# Altium footprint library Atmel_By_element14_Batch_1-00.PCBLIB: 46 footprints (part 1 of 3)
Each footprint in its own frame and in the unit in brackets; x right, y up, seen from the top. Pads: shape width x height; smd on the part's side, far side on the other; paste and mask are expansions set on the pad; w line width, h text height; cw(c..) or ccw(c..) is an arc to the next point about the centre after c.
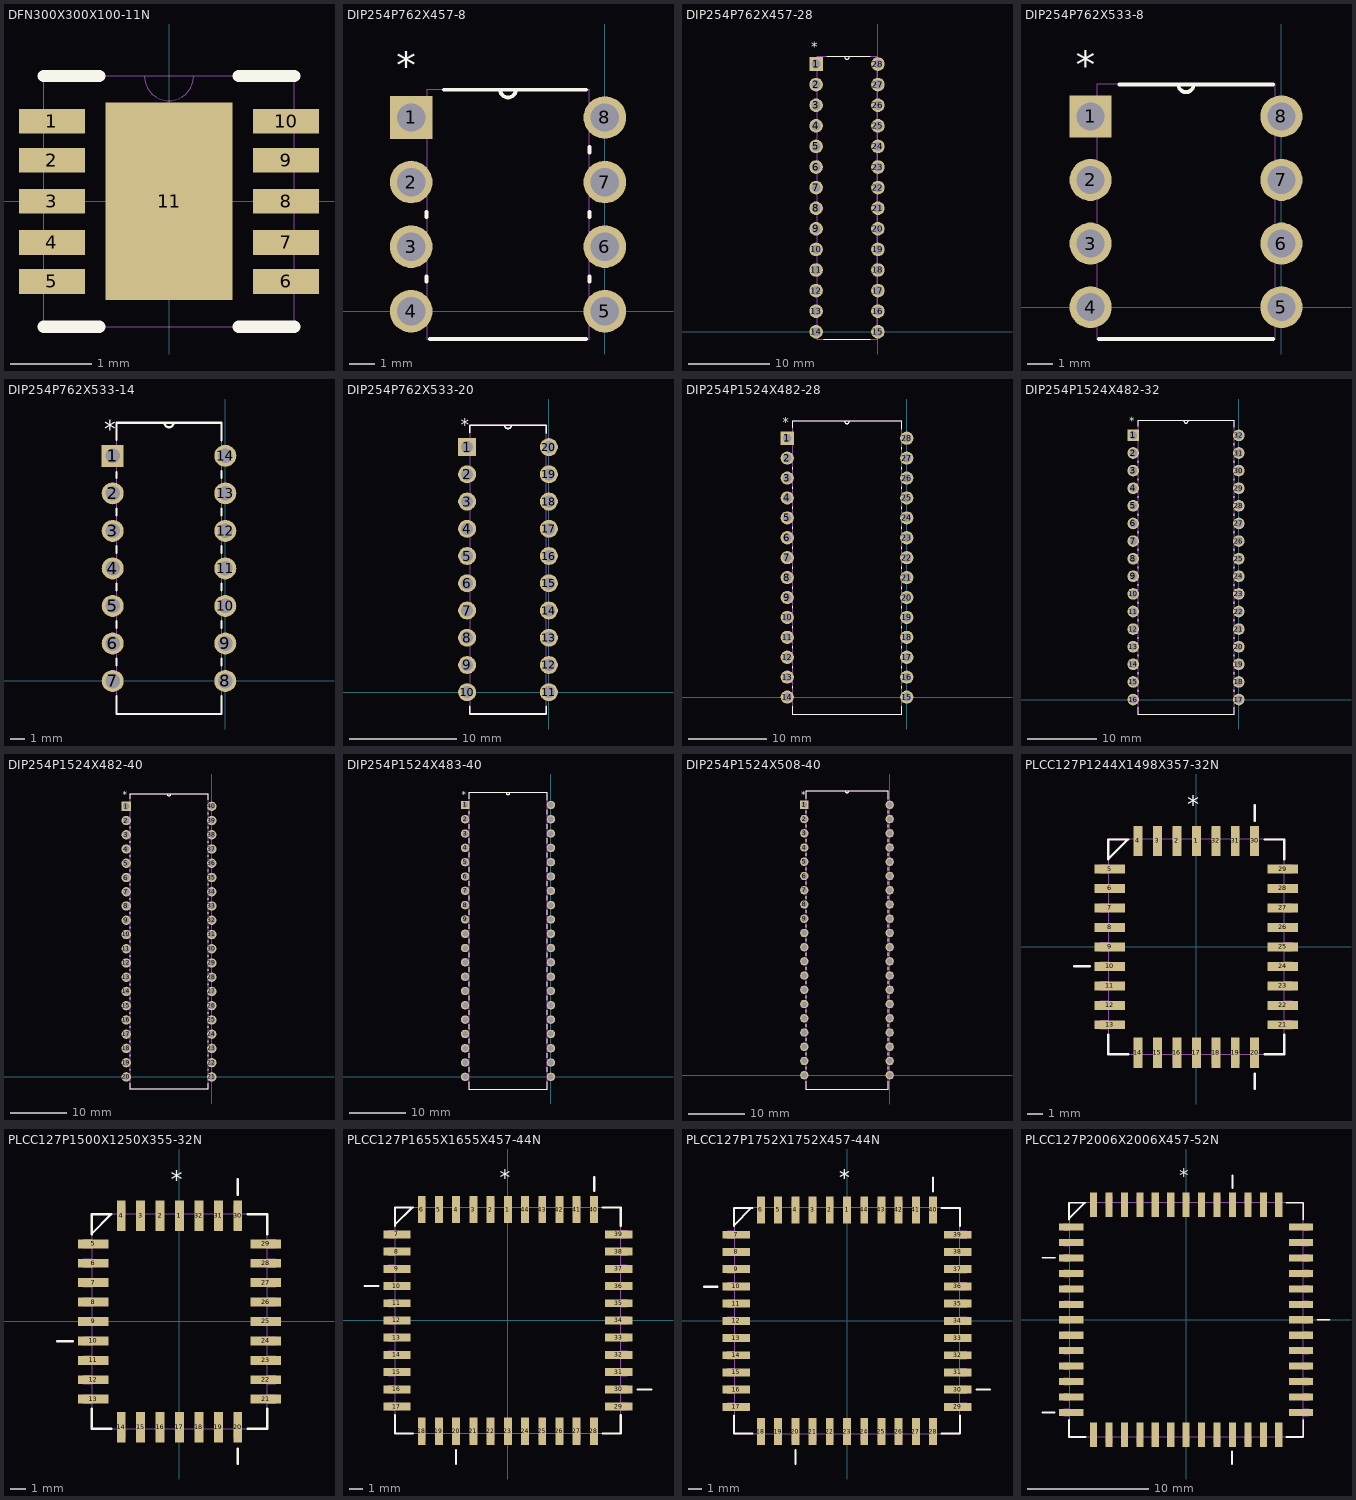
[diagram p0: the footprints below, top view; thin cyan lines are the x and y axes]

## DFN300X300X100-11N [mil]
pads (11):
  rect 32x12 smd: 1(-57,39) 2(-57,20) 3(-57,0) 4(-57,-20) 5(-57,-39) 6(57,-39) 7(57,-20) 8(57,0) 9(57,20) 10(57,39)
  rect 62x96 smd: 11(0,0)
Top Overlay:
  lines w6: -61,-61 -34,-61 ; -61,61 -34,61 ; 34,-61 61,-61 ; 34,61 61,61
Mechanical 16:
  lines w0: -12,61 ccw(c0,61) 12,61 ; -12,61 12,61 ; -12,61 -61,61 -61,-61 61,-61 61,61 12,61

## DIP254P762X457-8 [mil]
pads (8):
  rect 66x66 hole 44: 1(-300,300)
  round 66 hole 44: 2(-300,200) 3(-300,100) 4(-300,0) 5(0,0) 6(0,100) 7(0,200) 8(0,300)
Top Overlay:
  lines w6: -276,46 -276,54 ; -276,146 -276,154 ; -271,-43 -29,-43 ; -249,343 -162,343 ; -29,343 -138,343 ; -24,46 -24,54 ; -24,146 -24,154 ; -24,246 -24,254 ; -162,343 -138,343 ; -162,343 ccw(c-150,343) -138,343
  text "*" at -323,344 h77.5
Mechanical 16:
  lines w0: -162,343 -138,343 ; -162,343 -276,343 -276,-43 -24,-43 -24,343 -138,343 ; -162,343 ccw(c-150,343) -138,343 ; -322,-22 -322,22 -276,22 -276,-22 -322,-22 ; -322,78 -322,122 -276,122 -276,78 -322,78 ; -322,178 -322,222 -276,222 -276,178 -322,178 ; -322,278 -322,322 -276,322 -276,278 -322,278 ; -24,-22 -24,22 22,22 22,-22 -24,-22 ; -24,78 -24,122 22,122 22,78 -24,78 ; -24,178 -24,222 22,222 22,178 -24,178 ; -24,278 -24,322 22,322 22,278 -24,278
  text "*" at -323,344 h77.5

## DIP254P762X457-28 [mil]
pads (28):
  rect 66x66 hole 44: 1(-300,1300)
  round 66 hole 44: 2(-300,1200) 3(-300,1100) 4(-300,1000) 5(-300,900) 6(-300,800) 7(-300,700) 8(-300,600) 9(-300,500) 10(-300,400) 11(-300,300) 12(-300,200) 13(-300,100) 14(-300,0) 15(0,0) 16(0,100) 17(0,200) 18(0,300) 19(0,400) 20(0,500) 21(0,600) 22(0,700) 23(0,800) 24(0,900) 25(0,1000) 26(0,1100) 27(0,1200) 28(0,1300)
Top Overlay:
  lines w6: -262,-35 -38,-35 ; -248,1335 -162,1335 ; -38,1335 -138,1335 ; -162,1335 -138,1335 ; -162,1335 ccw(c-150,1335) -138,1335
  text "*" at -323,1344 h77.5
Mechanical 16:
  lines w0: -162,1335 -138,1335 ; -162,1335 -298,1335 -298,-35 -2,-35 -2,1335 -138,1335 ; -162,1335 ccw(c-150,1335) -138,1335 ; -322,-22 -322,22 -297,22 -297,-22 -322,-22 ; -322,78 -322,122 -297,122 -297,78 -322,78 ; -322,178 -322,222 -297,222 -297,178 -322,178 ; -322,278 -322,322 -297,322 -297,278 -322,278 ; -322,378 -322,422 -297,422 -297,378 -322,378 ; -322,478 -322,522 -298,522 -297,478 -322,478 ; -322,578 -322,622 -298,622 -298,578 -322,578 ; -322,678 -322,722 -298,722 -298,678 -322,678 ; -322,778 -322,822 -298,822 -298,778 -322,778 ; -322,878 -322,922 -298,922 -298,878 -322,878 ; -322,978 -322,1022 -298,1022 -298,978 -322,978 ; -322,1078 -322,1122 -298,1122 -298,1078 -322,1078 ; -322,1178 -322,1222 -298,1222 -298,1178 -322,1178 ; -322,1278 -322,1322 -298,1322 -298,1278 -322,1278 ; -3,22 -2,-22 22,-22 22,22 -3,22 ; -3,122 -2,78 22,78 22,122 -3,122 ; -3,178 -3,222 22,222 22,178 -3,178 ; -3,278 -3,322 22,322 22,278 -3,278 ; -3,378 -3,422 22,422 22,378 -3,378 ; -3,478 -3,522 22,522 22,478 -3,478 ; -3,578 -3,622 22,622 22,578 -3,578 ; -3,678 -3,722 22,722 22,678 -3,678 ; -3,778 -3,822 22,822 22,778 -3,778 ; -3,878 -3,922 22,922 22,878 -3,878 ; -3,978 -3,1022 22,1022 22,978 -3,978 ; -3,1078 -3,1122 22,1122 22,1078 -3,1078 ; -3,1178 -3,1222 22,1222 22,1178 -3,1178 ; -3,1278 -3,1322 22,1322 22,1278 -3,1278
  text "*" at -323,1344 h77.5

## DIP254P762X533-8 [mil]
pads (8):
  rect 66x66 hole 44: 1(-300,300)
  round 66 hole 44: 2(-300,200) 3(-300,100) 4(-300,0) 5(0,0) 6(0,100) 7(0,200) 8(0,300)
Top Overlay:
  lines w6: -287,-50 -13,-50 ; -255,350 -162,350 ; -13,350 -138,350 ; -162,350 -138,350 ; -162,350 ccw(c-150,350) -138,350
  text "*" at -323,344 h77.5
Mechanical 16:
  lines w0: -162,350 -138,350 ; -162,350 -290,350 -290,-50 -10,-50 -10,350 -138,350 ; -162,350 ccw(c-150,350) -138,350 ; -322,-22 -322,22 -290,22 -290,-22 -322,-22 ; -322,78 -322,122 -290,122 -290,78 -322,78 ; -322,178 -322,222 -290,222 -290,178 -322,178 ; -322,278 -322,322 -290,322 -290,278 -322,278 ; -10,-22 -10,22 22,22 22,-22 -10,-22 ; -10,78 -10,122 22,122 22,78 -10,78 ; -10,178 -10,222 22,222 22,178 -10,178 ; -10,278 -10,322 22,322 22,278 -10,278
  text "*" at -323,344 h77.5

## DIP254P762X533-14 [mil]
pads (14):
  rect 58.5x58.5 hole 39: 1(-300,600)
  round 58.5 hole 39: 2(-300,500) 3(-300,400) 4(-300,300) 5(-300,200) 6(-300,100) 7(-300,0) 8(0,0) 9(0,100) 10(0,200) 11(0,300) 12(0,400) 13(0,500) 14(0,600)
Top Overlay:
  lines w6: -290,-41 -290,-88 -10,-88 -10,-41 ; -290,41 -290,59 ; -290,141 -290,159 ; -290,241 -290,259 ; -290,341 -290,359 ; -290,441 -290,459 ; -290,541 -290,557 ; -290,643 -290,688 -162,688 ; -10,41 -10,59 ; -10,141 -10,159 ; -10,241 -10,259 ; -10,341 -10,359 ; -10,441 -10,459 ; -10,541 -10,559 ; -10,641 -10,688 -138,688 ; -162,688 -138,688 ; -162,688 ccw(c-150,688) -138,688
  text "*" at -323,634 h77.5
Mechanical 16:
  lines w0: -162,688 -138,688 ; -162,688 -290,688 -290,-88 -10,-88 -10,688 -138,688 ; -162,688 ccw(c-150,688) -138,688 ; -320,-20 -320,19 -290,20 -290,-20 -320,-20 ; -320,80 -320,120 -290,120 -290,80 -320,80 ; -320,180 -320,220 -290,220 -290,180 -320,180 ; -320,280 -320,320 -290,320 -290,280 -320,280 ; -320,380 -320,420 -290,420 -290,380 -320,380 ; -320,480 -320,520 -290,520 -290,480 -320,480 ; -320,580 -320,620 -290,620 -290,580 -320,580 ; -10,-20 -10,20 20,20 20,-19 -10,-20 ; -10,80 -10,120 19,120 20,81 -10,80 ; -10,180 -10,220 19,220 19,180 -10,180 ; -10,280 -10,320 19,320 19,280 -10,280 ; -10,380 -10,420 19,420 19,380 -10,380 ; -10,480 -10,520 19,520 19,480 -10,480 ; -10,580 -10,620 19,620 19,580 -10,580
  text "*" at -323,634 h77.5

## DIP254P762X533-20 [mil]
pads (20):
  rect 66x66 hole 44: 1(-300,900)
  round 66 hole 44: 2(-300,800) 3(-300,700) 4(-300,600) 5(-300,500) 6(-300,400) 7(-300,300) 8(-300,200) 9(-300,100) 10(-300,0) 11(0,0) 12(0,100) 13(0,200) 14(0,300) 15(0,400) 16(0,500) 17(0,600) 18(0,700) 19(0,800) 20(0,900)
Top Overlay:
  lines w6: -290,-51 -290,-80 -10,-80 -10,-51 ; -290,952 -290,980 -162,980 ; -10,951 -10,980 -138,980 ; -162,980 -138,980 ; -162,980 ccw(c-150,980) -138,980
  text "*" at -323,944 h77.5
Mechanical 16:
  lines w0: -162,980 -138,980 ; -162,980 -290,980 -290,-80 -10,-80 -10,980 -138,980 ; -162,980 ccw(c-150,980) -138,980 ; -322,-22 -322,22 -290,22 -290,-22 -322,-22 ; -322,78 -322,122 -290,122 -290,78 -322,78 ; -322,178 -322,222 -290,222 -290,178 -322,178 ; -322,278 -322,322 -290,322 -290,278 -322,278 ; -322,378 -322,422 -290,422 -290,378 -322,378 ; -322,478 -322,522 -290,522 -290,478 -322,478 ; -322,578 -322,622 -290,622 -290,578 -322,578 ; -322,678 -322,722 -290,722 -290,678 -322,678 ; -322,778 -322,822 -290,822 -290,778 -322,778 ; -322,878 -322,922 -290,922 -290,878 -322,878 ; -10,-22 -10,22 22,22 22,-22 -10,-22 ; -10,78 -10,122 22,122 22,78 -10,78 ; -10,178 -10,222 22,222 22,178 -10,178 ; -10,278 -10,322 22,322 22,278 -10,278 ; -10,378 -10,422 22,422 22,378 -10,378 ; -10,478 -10,522 22,522 22,478 -10,478 ; -10,578 -10,622 22,622 22,578 -10,578 ; -10,678 -10,722 22,722 22,678 -10,678 ; -10,778 -10,822 22,822 22,778 -10,778 ; -10,878 -10,922 22,922 22,878 -10,878
  text "*" at -323,944 h77.5

## DIP254P1524X482-28 [mil]
pads (28):
  rect 66x66 hole 44: 1(-600,1300)
  round 66 hole 44: 2(-600,1200) 3(-600,1100) 4(-600,1000) 5(-600,900) 6(-600,800) 7(-600,700) 8(-600,600) 9(-600,500) 10(-600,400) 11(-600,300) 12(-600,200) 13(-600,100) 14(-600,0) 15(0,0) 16(0,100) 17(0,200) 18(0,300) 19(0,400) 20(0,500) 21(0,600) 22(0,700) 23(0,800) 24(0,900) 25(0,1000) 26(0,1100) 27(0,1200) 28(0,1300)
Top Overlay:
  lines w6: -575,-45 -575,-85 -25,-85 -25,-45 ; -575,45 -575,55 ; -575,145 -575,155 ; -575,245 -575,255 ; -575,345 -575,355 ; -575,445 -575,455 ; -575,545 -575,555 ; -575,645 -575,655 ; -575,745 -575,755 ; -575,845 -575,855 ; -575,945 -575,955 ; -575,1045 -575,1055 ; -575,1145 -575,1155 ; -575,1352 -575,1385 -312,1385 ; -25,45 -25,55 ; -25,145 -25,155 ; -25,245 -25,255 ; -25,345 -25,355 ; -25,445 -25,455 ; -25,545 -25,555 ; -25,645 -25,655 ; -25,745 -25,755 ; -25,845 -25,855 ; -25,945 -25,955 ; -25,1045 -25,1055 ; -25,1145 -25,1155 ; -25,1245 -25,1255 ; -25,1345 -25,1385 -288,1385 ; -312,1385 -288,1385 ; -312,1385 ccw(c-300,1385) -288,1385
  text "*" at -623,1344 h77.5
Mechanical 16:
  lines w0: -312,1385 -288,1385 ; -312,1385 -575,1385 -575,-85 -25,-85 -25,1385 -288,1385 ; -312,1385 ccw(c-300,1385) -288,1385 ; -622,-22 -622,22 -575,22 -575,-22 -622,-22 ; -622,78 -622,122 -575,122 -575,78 -622,78 ; -622,178 -622,222 -575,222 -575,178 -622,178 ; -622,278 -622,322 -575,322 -575,278 -622,278 ; -622,378 -622,422 -575,422 -575,378 -622,378 ; -622,478 -622,522 -575,522 -575,478 -622,478 ; -622,578 -622,622 -575,622 -575,578 -622,578 ; -622,678 -622,722 -575,722 -575,678 -622,678 ; -622,778 -622,822 -575,822 -575,778 -622,778 ; -622,878 -622,922 -575,922 -575,878 -622,878 ; -622,978 -622,1022 -575,1022 -575,978 -622,978 ; -622,1078 -622,1122 -575,1122 -575,1078 -622,1078 ; -622,1178 -622,1222 -575,1222 -575,1178 -622,1178 ; -622,1278 -622,1322 -575,1322 -575,1278 -622,1278 ; -25,-22 -25,22 22,22 22,-22 -25,-22 ; -25,78 -25,122 22,122 22,78 -25,78 ; -25,178 -25,222 22,222 22,178 -25,178 ; -25,278 -25,322 22,322 22,278 -25,278 ; -25,378 -25,422 22,422 22,378 -25,378 ; -25,478 -25,522 22,522 22,478 -25,478 ; -25,578 -25,622 22,622 22,578 -25,578 ; -25,678 -25,722 22,722 22,678 -25,678 ; -25,778 -25,822 22,822 22,778 -25,778 ; -25,878 -25,922 22,922 22,878 -25,878 ; -25,978 -25,1022 22,1022 22,978 -25,978 ; -25,1078 -25,1122 22,1122 22,1078 -25,1078 ; -25,1178 -25,1222 22,1222 22,1178 -25,1178 ; -25,1278 -25,1322 22,1322 22,1278 -25,1278
  text "*" at -623,1344 h77.5

## DIP254P1524X482-32 [mil]
pads (32):
  rect 66x66 hole 44: 1(-600,1500)
  round 66 hole 44: 2(-600,1400) 3(-600,1300) 4(-600,1200) 5(-600,1100) 6(-600,1000) 7(-600,900) 8(-600,800) 9(-600,700) 10(-600,600) 11(-600,500) 12(-600,400) 13(-600,300) 14(-600,200) 15(-600,100) 16(-600,0) 17(0,0) 18(0,100) 19(0,200) 20(0,300) 21(0,400) 22(0,500) 23(0,600) 24(0,700) 25(0,800) 26(0,900) 27(0,1000) 28(0,1100) 29(0,1200) 30(0,1300) 31(0,1400) 32(0,1500)
Top Overlay:
  lines w6: -575,-45 -575,-82 -25,-82 -25,-45 ; -575,45 -575,55 ; -575,145 -575,155 ; -575,245 -575,255 ; -575,345 -575,355 ; -575,445 -575,455 ; -575,545 -575,555 ; -575,645 -575,655 ; -575,745 -575,755 ; -575,845 -575,855 ; -575,945 -575,955 ; -575,1045 -575,1055 ; -575,1145 -575,1155 ; -575,1245 -575,1255 ; -575,1345 -575,1355 ; -575,1552 -575,1582 -312,1582 ; -25,45 -25,55 ; -25,145 -25,155 ; -25,245 -25,255 ; -25,345 -25,355 ; -25,445 -25,455 ; -25,545 -25,555 ; -25,645 -25,655 ; -25,745 -25,755 ; -25,845 -25,855 ; -25,945 -25,955 ; -25,1045 -25,1055 ; -25,1145 -25,1155 ; -25,1245 -25,1255 ; -25,1345 -25,1355 ; -25,1445 -25,1455 ; -25,1545 -25,1582 -288,1582 ; -312,1582 -288,1582 ; -312,1582 ccw(c-300,1582) -288,1582
  text "*" at -623,1544 h77.5
Mechanical 16:
  lines w0: -312,1582 -288,1582 ; -312,1582 -575,1582 -575,-82 -25,-82 -25,1582 -288,1582 ; -312,1582 ccw(c-300,1582) -288,1582 ; -622,-22 -622,22 -575,22 -575,-22 -622,-22 ; -622,78 -622,122 -575,122 -575,78 -622,78 ; -622,178 -622,222 -575,222 -575,178 -622,178 ; -622,278 -622,322 -575,322 -575,278 -622,278 ; -622,378 -622,422 -575,422 -575,378 -622,378 ; -622,478 -622,522 -575,522 -575,478 -622,478 ; -622,578 -622,622 -575,622 -575,578 -622,578 ; -622,678 -622,722 -575,722 -575,678 -622,678 ; -622,778 -622,822 -575,822 -575,778 -622,778 ; -622,878 -622,922 -575,922 -575,878 -622,878 ; -622,978 -622,1022 -575,1022 -575,978 -622,978 ; -622,1078 -622,1122 -575,1122 -575,1078 -622,1078 ; -622,1178 -622,1222 -575,1222 -575,1178 -622,1178 ; -622,1278 -622,1322 -575,1322 -575,1278 -622,1278 ; -622,1378 -622,1422 -575,1422 -575,1378 -622,1378 ; -622,1478 -622,1522 -575,1522 -575,1478 -622,1478 ; -25,-22 -25,22 22,22 22,-22 -25,-22 ; -25,78 -25,122 22,122 22,78 -25,78 ; -25,178 -25,222 22,222 22,178 -25,178 ; -25,278 -25,322 22,322 22,278 -25,278 ; -25,378 -25,422 22,422 22,378 -25,378 ; -25,478 -25,522 22,522 22,478 -25,478 ; -25,578 -25,622 22,622 22,578 -25,578 ; -25,678 -25,722 22,722 22,678 -25,678 ; -25,778 -25,822 22,822 22,778 -25,778 ; -25,878 -25,922 22,922 22,878 -25,878 ; -25,978 -25,1022 22,1022 22,978 -25,978 ; -25,1078 -25,1122 22,1122 22,1078 -25,1078 ; -25,1178 -25,1222 22,1222 22,1178 -25,1178 ; -25,1278 -25,1322 22,1322 22,1278 -25,1278 ; -25,1378 -25,1422 22,1422 22,1378 -25,1378 ; -25,1478 -25,1522 22,1522 22,1478 -25,1478
  text "*" at -623,1544 h77.5

## DIP254P1524X482-40 [mil]
pads (40):
  rect 66x66 hole 44: 1(-600,1900)
  round 66 hole 44: 2(-600,1800) 3(-600,1700) 4(-600,1600) 5(-600,1500) 6(-600,1400) 7(-600,1300) 8(-600,1200) 9(-600,1100) 10(-600,1000) 11(-600,900) 12(-600,800) 13(-600,700) 14(-600,600) 15(-600,500) 16(-600,400) 17(-600,300) 18(-600,200) 19(-600,100) 20(-600,0) 21(0,0) 22(0,100) 23(0,200) 24(0,300) 25(0,400) 26(0,500) 27(0,600) 28(0,700) 29(0,800) 30(0,900) 31(0,1000) 32(0,1100) 33(0,1200) 34(0,1300) 35(0,1400) 36(0,1500) 37(0,1600) 38(0,1700) 39(0,1800) 40(0,1900)
Top Overlay:
  lines w6: -575,-45 -575,-85 -25,-85 -25,-45 ; -575,45 -575,55 ; -575,145 -575,155 ; -575,245 -575,255 ; -575,345 -575,355 ; -575,445 -575,455 ; -575,545 -575,555 ; -575,645 -575,655 ; -575,745 -575,755 ; -575,845 -575,855 ; -575,945 -575,955 ; -575,1045 -575,1055 ; -575,1145 -575,1155 ; -575,1245 -575,1255 ; -575,1345 -575,1355 ; -575,1445 -575,1455 ; -575,1545 -575,1555 ; -575,1645 -575,1655 ; -575,1745 -575,1755 ; -575,1952 -575,1985 -312,1985 ; -25,45 -25,55 ; -25,145 -25,155 ; -25,245 -25,255 ; -25,345 -25,355 ; -25,445 -25,455 ; -25,545 -25,555 ; -25,645 -25,655 ; -25,745 -25,755 ; -25,845 -25,855 ; -25,945 -25,955 ; -25,1045 -25,1055 ; -25,1145 -25,1155 ; -25,1245 -25,1255 ; -25,1345 -25,1355 ; -25,1445 -25,1455 ; -25,1545 -25,1555 ; -25,1645 -25,1655 ; -25,1745 -25,1755 ; -25,1845 -25,1855 ; -25,1945 -25,1985 -288,1985 ; -312,1985 -288,1985 ; -312,1985 ccw(c-300,1985) -288,1985
  text "*" at -623,1944 h77.5
Mechanical 16:
  drawing of 167 lines, arcs and shapes, not listed
  text "*" at -623,1944 h77.5

## DIP254P1524X483-40 [mil]
pads (40):
  rect 58.5x58.5 hole 39: 1(-600,1900)
  round 58.5 hole 39: 2(-600,1800) 3(-600,1700) 4(-600,1600) 5(-600,1500) 6(-600,1400) 7(-600,1300) 8(-600,1200) 9(-600,1100) 10(-600,1000) 11(-600,900) 12(-600,800) 13(-600,700) 14(-600,600) 15(-600,500) 16(-600,400) 17(-600,300) 18(-600,200) 19(-600,100) 20(-600,0) 21(0,0) 22(0,100) 23(0,200) 24(0,300) 25(0,400) 26(0,500) 27(0,600) 28(0,700) 29(0,800) 30(0,900) 31(0,1000) 32(0,1100) 33(0,1200) 34(0,1300) 35(0,1400) 36(0,1500) 37(0,1600) 38(0,1700) 39(0,1800) 40(0,1900)
Top Overlay:
  lines w6: -575,-34 -575,-85 -25,-85 -25,-34 ; -575,34 -575,66 ; -575,134 -575,166 ; -575,234 -575,266 ; -575,334 -575,366 ; -575,434 -575,466 ; -575,534 -575,566 ; -575,634 -575,666 ; -575,734 -575,766 ; -575,834 -575,866 ; -575,934 -575,966 ; -575,1034 -575,1066 ; -575,1134 -575,1166 ; -575,1234 -575,1266 ; -575,1334 -575,1366 ; -575,1434 -575,1466 ; -575,1534 -575,1566 ; -575,1634 -575,1666 ; -575,1734 -575,1766 ; -575,1834 -575,1857 ; -575,1943 -575,1985 -312,1985 ; -25,34 -25,66 ; -25,134 -25,166 ; -25,234 -25,266 ; -25,334 -25,366 ; -25,434 -25,466 ; -25,534 -25,566 ; -25,634 -25,666 ; -25,734 -25,766 ; -25,834 -25,866 ; -25,934 -25,966 ; -25,1034 -25,1066 ; -25,1134 -25,1166 ; -25,1234 -25,1266 ; -25,1334 -25,1366 ; -25,1434 -25,1466 ; -25,1534 -25,1566 ; -25,1634 -25,1666 ; -25,1734 -25,1766 ; -25,1834 -25,1866 ; -25,1934 -25,1985 -288,1985 ; -312,1985 -288,1985 ; -312,1985 ccw(c-300,1985) -288,1985
  text "*" at -623,1934 h77.5
Mechanical 16:
  drawing of 167 lines, arcs and shapes, not listed
  text "*" at -623,1934 h77.5

## DIP254P1524X508-40 [mil]
pads (40):
  rect 58.5x58.5 hole 39: 1(-600,1900)
  round 58.5 hole 39: 2(-600,1800) 3(-600,1700) 4(-600,1600) 5(-600,1500) 6(-600,1400) 7(-600,1300) 8(-600,1200) 9(-600,1100) 10(-600,1000) 11(-600,900) 12(-600,800) 13(-600,700) 14(-600,600) 15(-600,500) 16(-600,400) 17(-600,300) 18(-600,200) 19(-600,100) 20(-600,0) 21(0,0) 22(0,100) 23(0,200) 24(0,300) 25(0,400) 26(0,500) 27(0,600) 28(0,700) 29(0,800) 30(0,900) 31(0,1000) 32(0,1100) 33(0,1200) 34(0,1300) 35(0,1400) 36(0,1500) 37(0,1600) 38(0,1700) 39(0,1800) 40(0,1900)
Top Overlay:
  lines w6: -590,-41 -590,-97 -10,-97 -10,-41 ; -590,41 -590,59 ; -590,141 -590,159 ; -590,241 -590,259 ; -590,341 -590,359 ; -590,441 -590,459 ; -590,541 -590,559 ; -590,641 -590,659 ; -590,741 -590,759 ; -590,841 -590,859 ; -590,941 -590,959 ; -590,1041 -590,1059 ; -590,1141 -590,1159 ; -590,1241 -590,1259 ; -590,1341 -590,1359 ; -590,1441 -590,1459 ; -590,1541 -590,1559 ; -590,1641 -590,1659 ; -590,1741 -590,1759 ; -590,1841 -590,1857 ; -590,1943 -590,1997 -312,1997 ; -10,41 -10,59 ; -10,141 -10,159 ; -10,241 -10,259 ; -10,341 -10,359 ; -10,441 -10,459 ; -10,541 -10,559 ; -10,641 -10,659 ; -10,741 -10,759 ; -10,841 -10,859 ; -10,941 -10,959 ; -10,1041 -10,1059 ; -10,1141 -10,1159 ; -10,1241 -10,1259 ; -10,1341 -10,1359 ; -10,1441 -10,1459 ; -10,1541 -10,1559 ; -10,1641 -10,1659 ; -10,1741 -10,1759 ; -10,1841 -10,1859 ; -10,1941 -10,1997 -288,1997 ; -312,1997 -288,1997 ; -312,1997 ccw(c-300,1997) -288,1997
  text "*" at -623,1934 h77.5
Mechanical 16:
  drawing of 167 lines, arcs and shapes, not listed
  text "*" at -623,1934 h77.5

## PLCC127P1244X1498X357-32N [mil]
pads (32):
  rect 23x78 smd: 1(0,272) 2(-50,272) 3(-100,272) 4(-150,272) 14(-150,-272) 15(-100,-272) 16(-50,-272) 17(0,-272) 18(50,-272) 19(100,-272) 20(150,-272) 30(150,272) 31(100,272) 32(50,272)
  rect 78x23 smd: 5(-222,200) 6(-222,150) 7(-222,100) 8(-222,50) 9(-222,0) 10(-222,-50) 11(-222,-100) 12(-222,-150) 13(-222,-200) 21(222,-200) 22(222,-150) 23(222,-100) 24(222,-50) 25(222,0) 26(222,50) 27(222,100) 28(222,150) 29(222,200)
Top Overlay:
  lines w6: -314,-50 -274,-50 ; -226,-225 -226,-276 -175,-276 ; -226,225 -226,276 -176,276 ; -226,226 -176,276 ; -175,276 -176,276 ; 150,-365 150,-325 ; 150,324 150,364 ; 175,-276 226,-276 226,-225 ; 175,276 226,276 226,225
  text "*" at -23,328 h77.5
Mechanical 16:
  lines w2: -226,226 -176,276 ; -247,-210 -247,-190 -226,-190 -226,-210 -247,-210 ; -247,-160 -247,-140 -226,-140 -226,-160 -247,-160 ; -247,-110 -247,-90 -226,-90 -226,-110 -247,-110 ; -247,-60 -247,-40 -226,-40 -226,-60 -247,-60 ; -247,-10 -247,10 -226,10 -226,-10 -247,-10 ; -247,40 -247,60 -226,60 -226,40 -247,40 ; -247,90 -247,110 -226,110 -226,90 -247,90 ; -247,140 -247,160 -226,160 -226,140 -247,140 ; -247,190 -247,210 -226,210 -226,190 -247,190 ; -226,-276 226,-276 226,276 -226,276 -226,-276 ; -160,-298 -160,-276 -140,-276 -140,-298 -160,-298 ; -160,276 -140,276 -140,298 -160,298 -160,276 ; -110,-298 -110,-276 -90,-276 -90,-298 -110,-298 ; -110,276 -90,276 -90,298 -110,298 -110,276 ; -60,-298 -60,-276 -40,-276 -40,-298 -60,-298 ; -60,276 -40,276 -40,298 -60,298 -60,276 ; -10,-298 -10,-276 10,-276 10,-298 -10,-298 ; -10,276 10,276 10,298 -10,298 -10,276 ; 40,-298 40,-276 60,-276 60,-298 40,-298 ; 40,276 60,276 60,298 40,298 40,276 ; 90,-298 90,-276 110,-276 110,-298 90,-298 ; 90,276 110,276 110,298 90,298 90,276 ; 140,-298 140,-276 160,-276 160,-298 140,-298 ; 140,276 160,276 160,298 140,298 140,276 ; 226,-210 226,-190 247,-190 247,-210 226,-210 ; 226,-160 226,-140 247,-140 247,-160 226,-160 ; 226,-110 226,-90 247,-90 247,-110 226,-110 ; 226,-60 226,-40 247,-40 247,-60 226,-60 ; 226,-10 226,10 247,10 247,-10 226,-10 ; 226,40 226,60 247,60 247,40 226,40 ; 226,90 226,110 247,110 247,90 226,90 ; 226,140 226,160 247,160 247,140 226,140 ; 226,190 226,210 247,210 247,190 226,190
  text "*" at -23,328 h77.5

## PLCC127P1500X1250X355-32N [mil]
pads (32):
  rect 23x78 smd: 1(0,272) 2(-50,272) 3(-100,272) 4(-150,272) 14(-150,-272) 15(-100,-272) 16(-50,-272) 17(0,-272) 18(50,-272) 19(100,-272) 20(150,-272) 30(150,272) 31(100,272) 32(50,272)
  rect 78x23 smd: 5(-222,200) 6(-222,150) 7(-222,100) 8(-222,50) 9(-222,0) 10(-222,-50) 11(-222,-100) 12(-222,-150) 13(-222,-200) 21(222,-200) 22(222,-150) 23(222,-100) 24(222,-50) 25(222,0) 26(222,50) 27(222,100) 28(222,150) 29(222,200)
Top Overlay:
  lines w6: -315,-51 -275,-51 ; -226,-225 -226,-276 -175,-276 ; -226,225 -226,276 -176,276 ; -226,226 -176,276 ; -175,276 -176,276 ; 150,-367 150,-327 ; 150,326 150,366 ; 175,-276 226,-276 226,-225 ; 175,276 226,276 226,225
  text "*" at -23,328 h77.5
Mechanical 16:
  lines w2: -226,226 -176,276 ; -248,-210 -248,-190 -226,-190 -226,-210 -248,-210 ; -248,-160 -248,-140 -226,-140 -226,-160 -248,-160 ; -248,-110 -248,-90 -226,-90 -226,-110 -248,-110 ; -248,-61 -248,-40 -226,-40 -226,-60 -248,-61 ; -248,-10 -248,10 -226,10 -226,-10 -248,-10 ; -248,40 -248,60 -226,60 -226,40 -248,40 ; -248,90 -248,110 -226,110 -226,90 -248,90 ; -248,140 -248,160 -226,160 -226,140 -248,140 ; -248,190 -248,210 -226,210 -226,190 -248,190 ; -226,-276 226,-276 226,276 -226,276 -226,-276 ; -160,-298 -160,-276 -140,-276 -140,-298 -160,-298 ; -160,276 -140,276 -140,298 -160,298 -160,276 ; -110,-298 -110,-276 -90,-276 -90,-298 -110,-298 ; -110,276 -90,276 -90,298 -110,298 -110,276 ; -60,-298 -60,-276 -40,-276 -40,-298 -60,-298 ; -60,276 -40,276 -40,298 -60,298 -60,276 ; -10,-298 -10,-276 10,-276 10,-298 -10,-298 ; -10,276 10,276 10,298 -10,298 -10,276 ; 40,-298 40,-276 60,-276 60,-298 40,-298 ; 40,276 60,276 60,298 40,298 40,276 ; 90,-298 90,-276 110,-276 110,-298 90,-298 ; 90,276 110,276 110,298 90,298 90,276 ; 140,-298 140,-276 160,-276 160,-298 140,-298 ; 140,276 160,276 160,298 140,298 140,276 ; 226,-210 226,-190 248,-190 248,-210 226,-210 ; 226,-160 226,-140 248,-140 248,-160 226,-160 ; 226,-110 226,-90 248,-90 248,-110 226,-110 ; 226,-60 226,-40 248,-40 248,-60 226,-60 ; 226,-10 226,10 248,10 248,-10 226,-10 ; 226,40 226,60 248,60 248,40 226,40 ; 226,90 226,110 248,110 248,90 226,90 ; 226,140 226,160 248,160 248,140 226,140 ; 226,190 226,210 248,210 248,190 226,190
  text "*" at -23,328 h77.5

## PLCC127P1655X1655X457-44N [mil]
pads (44):
  rect 23x79 smd: 1(0,322) 2(-50,322) 3(-100,322) 4(-150,322) 5(-200,322) 6(-250,322) 18(-250,-322) 19(-200,-322) 20(-150,-322) 21(-100,-322) 22(-50,-322) 23(0,-322) 24(50,-322) 25(100,-322) 26(150,-322) 27(200,-322) 28(250,-322) 40(250,322) 41(200,322) 42(150,322) 43(100,322) 44(50,322)
  rect 79x23 smd: 7(-322,250) 8(-322,200) 9(-322,150) 10(-322,100) 11(-322,50) 12(-322,0) 13(-322,-50) 14(-322,-100) 15(-322,-150) 16(-322,-200) 17(-322,-250) 29(322,-250) 30(322,-200) 31(322,-150) 32(322,-100) 33(322,-50) 34(322,0) 35(322,50) 36(322,100) 37(322,150) 38(322,200) 39(322,250)
Top Overlay:
  lines w6: -416,100 -376,100 ; -328,-275 -328,-328 -275,-328 ; -328,275 -328,328 -278,328 ; -328,278 -278,328 ; -275,328 -278,328 ; -150,-417 -150,-377 ; 251,376 251,416 ; 275,-328 328,-328 328,-275 ; 275,328 328,328 328,275 ; 377,-200 417,-200
  text "*" at -23,377 h77.5
Mechanical 16:
  drawing of 181 lines, arcs and shapes, not listed
  text "*" at -23,377 h77.5

## PLCC127P1752X1752X457-44N [mil]
pads (44):
  rect 23x79 smd: 1(0,322) 2(-50,322) 3(-100,322) 4(-150,322) 5(-200,322) 6(-250,322) 18(-250,-322) 19(-200,-322) 20(-150,-322) 21(-100,-322) 22(-50,-322) 23(0,-322) 24(50,-322) 25(100,-322) 26(150,-322) 27(200,-322) 28(250,-322) 40(250,322) 41(200,322) 42(150,322) 43(100,322) 44(50,322)
  rect 79x23 smd: 7(-322,250) 8(-322,200) 9(-322,150) 10(-322,100) 11(-322,50) 12(-322,0) 13(-322,-50) 14(-322,-100) 15(-322,-150) 16(-322,-200) 17(-322,-250) 29(322,-250) 30(322,-200) 31(322,-150) 32(322,-100) 33(322,-50) 34(322,0) 35(322,50) 36(322,100) 37(322,150) 38(322,200) 39(322,250)
Top Overlay:
  lines w6: -416,99 -376,99 ; -328,-275 -328,-328 -275,-328 ; -328,275 -328,278 ; -275,328 -278,328 ; -150,-416 -150,-376 ; 250,376 250,416 ; 275,-328 328,-328 328,-275 ; 275,328 328,328 328,275 ; 376,-200 416,-200 ; -328,278 -328,328 -278,328 ; -328,278 -278,328
  text "*" at -23,378 h77.5
  text "*" at -23,378 h77.5
Mechanical 16:
  drawing of 231 lines, arcs and shapes, not listed
  text "*" at -23,378 h77.5
  text "*" at -23,378 h77.5

## PLCC127P2006X2006X457-52N [mil]
pads (52):
  rect 23x79 smd: 1(0,372) 2(-50,372) 3(-100,372) 4(-150,372) 5(-200,372) 6(-250,372) 7(-300,372) 21(-300,-372) 22(-250,-372) 23(-200,-372) 24(-150,-372) 25(-100,-372) 26(-50,-372) 27(0,-372) 28(50,-372) 29(100,-372) 30(150,-372) 31(200,-372) 32(250,-372) 33(300,-372) 47(300,372) 48(250,372) 49(200,372) 50(150,372) 51(100,372) 52(50,372)
  rect 79x23 smd: 8(-372,300) 9(-372,250) 10(-372,200) 11(-372,150) 12(-372,100) 13(-372,50) 14(-372,0) 15(-372,-50) 16(-372,-100) 17(-372,-150) 18(-372,-200) 19(-372,-250) 20(-372,-300) 34(372,-300) 35(372,-250) 36(372,-200) 37(372,-150) 38(372,-100) 39(372,-50) 40(372,0) 41(372,50) 42(372,100) 43(372,150) 44(372,200) 45(372,250) 46(372,300)
Top Overlay:
  lines w6: -466,-300 -426,-300 ; -465,201 -425,201 ; -379,-325 -379,-379 -325,-379 ; -379,325 -379,379 -329,379 ; -379,329 -329,379 ; -325,379 -329,379 ; 149,-467 149,-427 ; 150,427 150,467 ; 325,-379 379,-379 379,-325 ; 325,379 379,379 379,325 ; 425,0 465,0
  text "*" at -23,427 h77.5
Mechanical 16:
  drawing of 213 lines, arcs and shapes, not listed
  text "*" at -23,427 h77.5